# Altium footprint library SO_package.PcbLib: 34 footprints (part 2 of 3)
Each footprint in its own frame and in the unit in brackets; x right, y up, seen from the top. Pads: shape width x height; smd on the part's side, far side on the other; paste and mask are expansions set on the pad; w line width, h text height; cw(c..) or ccw(c..) is an arc to the next point about the centre after c.
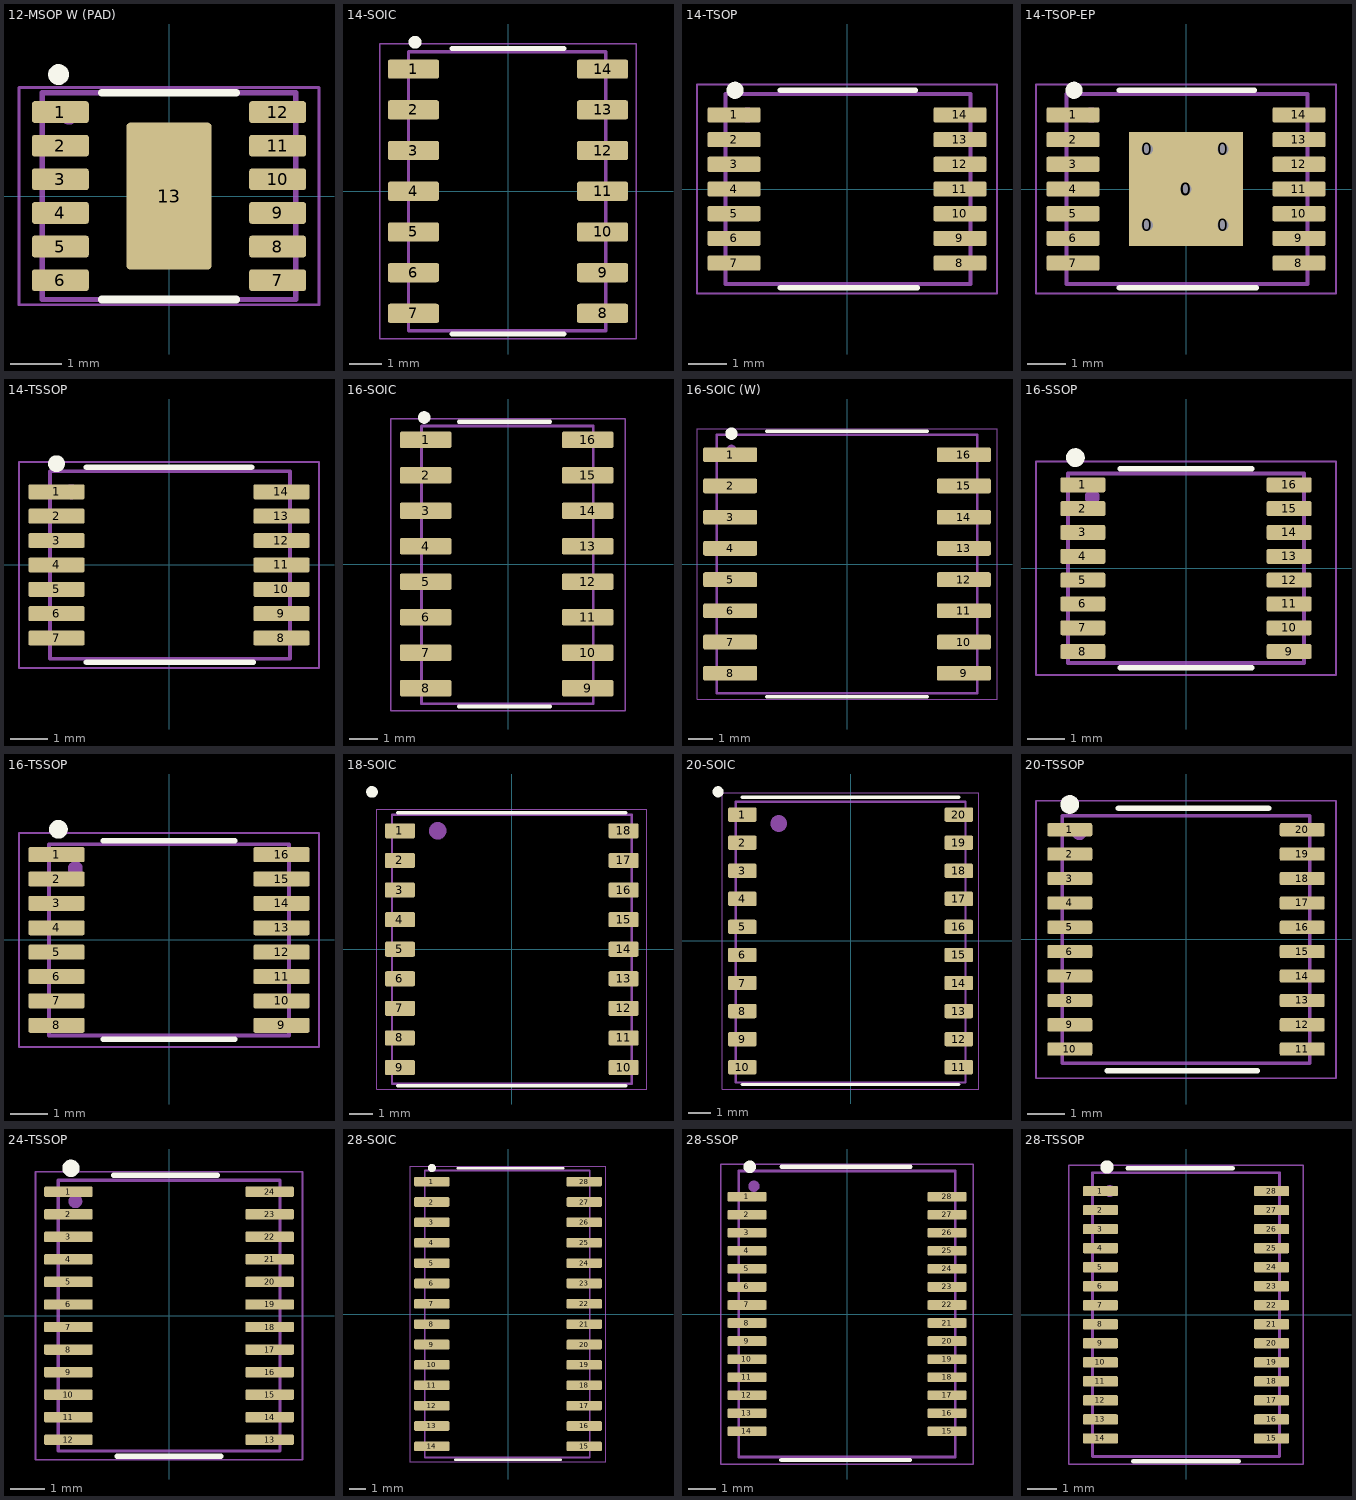
[diagram p1: the footprints below, top view; thin cyan lines are the x and y axes]

## 12-MSOP W (PAD) [mm]
height 1.1
pads (13):
  rrect25% 1.1x0.42 smd: 1(-2.1,1.625) 2(-2.1,0.975) 3(-2.1,0.325) 4(-2.1,-0.325) 5(-2.1,-0.975) 6(-2.1,-1.625) 7(2.1,-1.625) 8(2.1,-0.975) 9(2.1,-0.325) 10(2.1,0.325) 11(2.1,0.975) 12(2.1,1.625)
  rrect10% 1.651x2.845 smd: 13(0,0)
Top Overlay:
  circle w0.2: c-2.135,2.351 r0.1
  lines w0.15: -1.3,-2 1.3,-2 ; -1.3,2 1.3,2
Top Assembly (Mech13):
  circle w0.2: c-1.932,1.586 r0.1
  lines w0.1: -2.45,-2 -2.45,2 2.45,2 2.45,-2 -2.45,-2
  text ".Designator" at -4.998,-0.333 h1
Top Courtyard:
  lines w0.05: -2.9,-2.1 -2.9,2.1 2.9,2.1 2.9,-2.1 -2.9,-2.1

## 14-SOIC [mm]
pads (14):
  rrect25% 1.6x0.6 smd: 1(-2.95,3.81) 2(-2.95,2.54) 3(-2.95,1.27) 4(-2.95,0) 5(-2.95,-1.27) 6(-2.95,-2.54) 7(-2.95,-3.81) 8(2.95,-3.81) 9(2.95,-2.54) 10(2.95,-1.27) 11(2.95,0) 12(2.95,1.27) 13(2.95,2.54) 14(2.95,3.81)
Top Overlay:
  circle w0.2: c-2.9,4.65 r0.1
  lines w0.15: -1.75,-4.45 1.75,-4.45 ; -1.75,4.45 1.75,4.45
Top Assembly (Mech13):
  circle w0.2: c-2.5,3.75 r0.1
  lines w0.1: -3.1,-4.35 -3.1,4.35 3.05,4.35 3.05,-4.35 -3.1,-4.35
  text ".Designator" at -4.998,-0.333 h1
Top Courtyard:
  lines w0.05: 4,3.9 4,-4.6 -4,-4.6 -4,4.6 4,4.6 4,3.91
3D body "User Library-so14-2.STEP": height 1.78, standoff 0.01, extent -3.068,-4.34 3.069,4.36

## 14-TSOP [mm]
height 1.2
pads (14):
  rrect25% 1.4x0.4 smd: 1(-2.975,1.95) 2(-2.975,1.3) 3(-2.975,0.65) 4(-2.975,0) 5(-2.975,-0.65) 6(-2.975,-1.3) 7(-2.975,-1.95) 8(2.975,-1.95) 9(2.975,-1.3) 10(2.975,-0.65) 11(2.975,0) 12(2.975,0.65) 13(2.975,1.3) 14(2.975,1.95)
Top Overlay:
  circle w0.25: c-2.95,2.6 r0.1
  lines w0.15: -1.75,-2.6 1.85,-2.6 ; -1.75,2.6 1.8,2.6
Top Assembly (Mech13):
  lines w0.1: -3.2,-2.5 -3.2,2.5 3.25,2.5 3.25,-2.5 -3.2,-2.5 ; 3.225,2.5 3.225,2.5
  lines w0.2: -2.521,1.95 ccw(c-2.621,1.95) -2.521,1.95
  text ".Designator" at -4.998,-0.333 h1
Top Courtyard:
  lines w0.05: -3.95,-2.75 -3.95,2.75 3.95,2.75 3.95,-2.75 -0.575,-2.75 -3.95,-2.75
3D body "SW3dPS-TSSOP14-1.STEP": height 1.1, standoff 0, extent -3.175,-2.5 3.225,2.5

## 14-TSOP-EP [mm]
height 1.2
pads (20):
  round 0.6 hole 0.3: 0(-1.025,-0.95) 0(-1.025,1.05) 0(0,0) 0(0.975,-0.95) 0(0.975,1.05)
  rect 3x3 smd: 0(0,0)
  rrect25% 1.4x0.4 smd: 1(-2.975,1.95) 2(-2.975,1.3) 3(-2.975,0.65) 4(-2.975,0) 5(-2.975,-0.65) 6(-2.975,-1.3) 7(-2.975,-1.95) 8(2.975,-1.95) 9(2.975,-1.3) 10(2.975,-0.65) 11(2.975,0) 12(2.975,0.65) 13(2.975,1.3) 14(2.975,1.95)
Top Overlay:
  circle w0.25: c-2.95,2.6 r0.1
  lines w0.15: -1.75,-2.6 1.85,-2.6 ; -1.75,2.6 1.8,2.6
Top Assembly (Mech13):
  circle w0.2: c-2.5,1.95 r0.1
  lines w0.1: -3.15,-2.5 3.2,-2.5 3.2,2.5 -3.15,2.5 -3.15,-2.5
  text ".Designator" at -4.998,-0.333 h1
Top Courtyard:
  lines w0.05: -3.95,-2.75 -0.575,-2.75 3.95,-2.75 3.95,2.75 -3.95,2.75 -3.95,-2.75
  lines w0.1: -0.5,0 0.5,0 ; 0,-0.5 0,0.5
3D body "SW3dPS-TSSOP14-1.STEP": height 1.1, standoff 0, extent -3.175,-2.5 3.225,2.5

## 14-TSSOP [mm]
height 1.2
pads (14):
  rrect25% 1.5x0.4 smd: 1(-3,1.95) 2(-3,1.3) 3(-3,0.65) 4(-3,0) 5(-3,-0.65) 6(-3,-1.3) 7(-3,-1.95) 8(3,-1.95) 9(3,-1.3) 10(3,-0.65) 11(3,0) 12(3,0.65) 13(3,1.3) 14(3,1.95)
Top Overlay:
  circle w0.25: c-3,2.7 r0.1
  lines w0.15: -2.2,-2.6 2.25,-2.6 ; -2.2,2.6 2.2,2.6
Top Assembly (Mech13):
  circle w0.2: c-2.6,1.95 r0.1
  lines w0.1: 3.225,2.5 -3.175,2.5 -3.175,-2.5 3.225,-2.5 3.225,2.5 ; 3.225,2.5 3.225,2.5
  text ".Designator" at -4.998,-0.333 h1
Top Courtyard:
  lines w0.05: -4,-2.75 -4,2.75 4,2.75 4,-2.75 -4,-2.75
3D body "SW3dPS-TSSOP14-1.STEP": height 1.1, standoff 0, extent -3.175,-2.5 3.225,2.5

## 16-SOIC [mm]
height 2.65
pads (16):
  rrect25% 1.85x0.6 smd: 1(-2.95,4.45) 2(-2.95,3.18) 3(-2.95,1.91) 4(-2.95,0.64) 5(-2.95,-0.63) 6(-2.95,-1.9) 7(-2.95,-3.17) 8(-2.95,-4.44) 9(2.85,-4.44) 10(2.85,-3.17) 11(2.85,-1.9) 12(2.85,-0.63) 13(2.85,0.64) 14(2.85,1.91) 15(2.85,3.18) 16(2.85,4.45)
Top Overlay:
  circle w0.25: c-3,5.25 r0.1
  lines w0.15: -1.75,-5.1 1.5,-5.1 ; -1.75,5.1 1.5,5.1
Top Assembly (Mech13):
  circle w0.2: c-2.6,4.4 r0.1
  lines w0.1: -3.1,-5 -3.1,4.95 3.05,4.95 3.05,-5 -3.1,-5
  text ".Designator" at -4.998,-0.333 h1
Top Courtyard:
  lines w0.05: -4.2,-5.25 4.2,-5.25 4.2,5.2 -4.2,5.2 -4.2,-5.25
3D body "User Library-so16-1.STEP": height 1.73, standoff -0.04, extent -3.075,-5.018 3.062,4.952

## 16-SOIC (W) [mm]
height 2.65
pads (16):
  rrect25% 2.2x0.6 smd: 1(-4.75,4.445) 2(-4.75,3.175) 3(-4.75,1.905) 4(-4.75,0.635) 5(-4.75,-0.635) 6(-4.75,-1.905) 7(-4.75,-3.175) 8(-4.75,-4.445) 9(4.75,-4.445) 10(4.75,-3.175) 11(4.75,-1.905) 12(4.75,-0.635) 13(4.75,0.635) 14(4.75,1.905) 15(4.75,3.175) 16(4.75,4.445)
Top Overlay:
  circle w0.3: c-4.7,5.3 r0.1
  lines w0.15: -3.25,-5.4 3.25,-5.4 ; -3.25,5.4 3.25,5.4
Top Assembly (Mech13):
  circle w0.2: c-4.7,4.65 r0.1
  lines w0.1: -5.3,-5.25 5.3,-5.25 5.3,5.25 -5.3,5.25 -5.3,-5.25
  text ".Designator" at -4.998,-0.333 h1
Top Courtyard:
  lines w0.05: -6.1,-5.5 -6.1,5.5 6.1,5.5 6.1,-5.5 -6.1,-5.5
3D body "User Library-SOIC16_Wide_JEDEC_MS-013AA.STEP": height 2.62, standoff -0.03, extent -5.315,-5.25 5.315,5.25

## 16-SSOP [mm] "TSOP, 16-Leads, Body 5,00x4,00mm, Pitch 0,635mm, IPC Medium Density"
height 1.2
pads (16):
  rrect25% 1.2x0.4 smd: 1(-2.75,2.223) 2(-2.75,1.588) 3(-2.75,0.953) 4(-2.75,0.318) 5(-2.75,-0.318) 6(-2.75,-0.953) 7(-2.75,-1.588) 8(-2.75,-2.223) 9(2.75,-2.223) 10(2.75,-1.588) 11(2.75,-0.953) 12(2.75,-0.318) 13(2.75,0.318) 14(2.75,0.953) 15(2.75,1.588) 16(2.75,2.223)
Top Overlay:
  circle w0.25: c-2.95,2.95 r0.125
  lines w0.15: -1.75,-2.65 1.75,-2.65 ; -1.75,2.65 1.75,2.65
Top Assembly (Mech13):
  circle w0.2: c-2.5,1.9 r0.1
  lines w0.1: -3.15,-2.525 -3.15,2.525 3.15,2.525 3.15,-2.525 -3.15,-2.525
  text ".Designator" at -4.998,-0.333 h1
Top Courtyard:
  lines w0.05: -4,-2.85 -4,2.85 4,2.85 4,-2.85 -4,-2.85
3D body "User Library-SSOP 16-pin.STEP": height 1.75, standoff 0.01, extent -3.127,-2.5 3.127,2.5

## 16-TSSOP [mm] "TSOP, 16-Leads, Body 5,00x4,40mm, Pitch 0,65mm, IPC Medium Density"
height 1.2
pads (16):
  rrect25% 1.5x0.4 smd: 1(-3,2.275) 2(-3,1.625) 3(-3,0.975) 4(-3,0.325) 5(-3,-0.325) 6(-3,-0.975) 7(-3,-1.625) 8(-3,-2.275) 9(3,-2.275) 10(3,-1.625) 11(3,-0.975) 12(3,-0.325) 13(3,0.325) 14(3,0.975) 15(3,1.625) 16(3,2.275)
Top Overlay:
  circle w0.25: c-2.95,2.95 r0.125
  lines w0.15: -1.75,-2.65 1.75,-2.65 ; -1.75,2.65 1.75,2.65
Top Assembly (Mech13):
  circle w0.2: c-2.5,1.9 r0.1
  lines w0.1: -3.2,-2.55 -3.2,2.55 3.2,2.55 3.2,-2.55 -3.2,-2.55
  text ".Designator" at -4.998,-0.333 h1
Top Courtyard:
  lines w0.05: -4,-2.85 -4,2.85 4,2.85 4,-2.85 -4,-2.85
3D body "User Library-TSSOP-16-1.step": height 1.1, standoff 0, extent -3.2,-2.5 3.2,2.5

## 18-SOIC [mm]
height 1.2
pads (18):
  rrect25% 1.3x0.65 smd: 1(-4.8,5.08) 2(-4.8,3.81) 3(-4.8,2.54) 4(-4.8,1.27) 5(-4.8,0) 6(-4.8,-1.27) 7(-4.8,-2.54) 8(-4.8,-3.81) 9(-4.8,-5.08) 10(4.8,-5.08) 11(4.8,-3.81) 12(4.8,-2.54) 13(4.8,-1.27) 14(4.8,0) 15(4.8,1.27) 16(4.8,2.54) 17(4.8,3.81) 18(4.8,5.08)
Top Overlay:
  circle w0.25: c-5.998,6.752 r0.125
  lines w0.15: -4.9,-5.865 4.9,-5.865 ; -4.9,5.865 4.9,5.865
Top Assembly (Mech13):
  circle w0.75: c-3.182,5.08 r0.001
  lines w0.1: -5.141,-5.776 5.148,-5.776 5.148,5.772 -5.141,5.772 -5.141,-5.776
  text ".Designator" at -4.998,-0.333 h1
Top Courtyard:
  lines w0.05: -5.8,-6 5.8,-6 5.8,6 -5.8,6 -5.8,-6
3D body "User Library-SOIC18-300.STEP": height 2.65, standoff 0, extent -5.15,-5.765 5.15,5.765

## 20-SOIC [mm]
height 1.2
pads (20):
  rrect25% 1.3x0.65 smd: 1(-4.9,5.715) 2(-4.9,4.445) 3(-4.9,3.175) 4(-4.9,1.905) 5(-4.9,0.635) 6(-4.9,-0.635) 7(-4.9,-1.905) 8(-4.9,-3.175) 9(-4.9,-4.445) 10(-4.9,-5.715) 11(4.9,-5.715) 12(4.9,-4.445) 13(4.9,-3.175) 14(4.9,-1.905) 15(4.9,-0.635) 16(4.9,0.635) 17(4.9,1.905) 18(4.9,3.175) 19(4.9,4.445) 20(4.9,5.715)
Top Overlay:
  circle w0.25: c-5.998,6.752 r0.125
  lines w0.15: -4.9,-6.5 4.9,-6.5 ; -4.9,6.5 4.9,6.5
Top Assembly (Mech13):
  circle w0.75: c-3.253,5.314 r0.001
  lines w0.1: -5.2,-6.4 5.2,-6.4 5.2,6.3 -5.2,6.3 -5.2,-6.4
  text ".Designator" at -4.998,-0.333 h1
Top Courtyard:
  lines w0.05: -5.8,-6.7 5.8,-6.7 5.8,6.7 -5.8,6.7 -5.8,-6.7
3D body "User Library-SOIC_20-300.STEP": height 2.6, standoff 0, extent -5.2,-6.315 5.2,6.285

## 20-TSSOP [mm]
height 1.2
pads (20):
  rrect25% 1.2x0.35 smd: 1(-3.1,2.925) 2(-3.1,2.275) 3(-3.1,1.625) 4(-3.1,0.975) 5(-3.1,0.325) 6(-3.1,-0.325) 7(-3.1,-0.975) 8(-3.1,-1.625) 9(-3.1,-2.275) 10(-3.1,-2.925) 11(3.1,-2.925) 12(3.1,-2.275) 13(3.1,-1.625) 14(3.1,-0.975) 15(3.1,-0.325) 16(3.1,0.325) 17(3.1,0.975) 18(3.1,1.625) 19(3.1,2.275) 20(3.1,2.925)
Top Overlay:
  circle w0.25: c-3.1,3.6 r0.125
  lines w0.15: -2.1,-3.5 1.9,-3.5 ; -1.8,3.5 2.2,3.5
Top Assembly (Mech13):
  circle w0.2: c-2.846,2.85 r0.1
  lines w0.1: -3.3,-3.3 3.3,-3.3 3.3,3.3 -3.3,3.3 -3.3,-3.3
  text ".Designator" at -4.998,-0.333 h1
Top Courtyard:
  lines w0.05: -4,-3.7 4,-3.7 4,3.7 -4,3.7 -4,-3.7
3D body "tssop-20-1.STEP": height 1.1, standoff -0.1, extent -3.3,-3.3 3.3,3.3

## 24-TSSOP [mm]
height 1.2
pads (24):
  rrect25% 1.4x0.3 smd: 1(-2.9,3.575) 2(-2.9,2.925) 3(-2.9,2.275) 4(-2.9,1.625) 5(-2.9,0.975) 6(-2.9,0.325) 7(-2.9,-0.325) 8(-2.9,-0.975) 9(-2.9,-1.625) 10(-2.9,-2.275) 11(-2.9,-2.925) 12(-2.9,-3.575) 13(2.9,-3.575) 14(2.9,-2.925) 15(2.9,-2.275) 16(2.9,-1.625) 17(2.9,-0.975) 18(2.9,-0.325) 19(2.9,0.325) 20(2.9,0.975) 21(2.9,1.625) 22(2.9,2.275) 23(2.9,2.925) 24(2.9,3.575)
Top Overlay:
  circle w0.25: c-2.825,4.25 r0.125
  lines w0.15: -1.6,4.05 1.4,4.05 ; -1.5,-4.05 1.5,-4.05
Top Assembly (Mech13):
  lines w0.1: -3.2,-3.9 -3.2,3.9 3.2,3.9 3.2,-3.9 -3.2,-3.9
  lines w0.2: -2.605,3.332 ccw(c-2.7,3.3) -2.6,3.3
  text ".Designator" at -4.998,-0.333 h1
Top Courtyard:
  lines w0.05: -3.85,-4.15 -3.85,4.15 3.85,4.15 3.85,-4.15 -3.85,-4.15
3D body "TSSOP24.STEP": height 1.2, standoff 0, extent -3.2,-3.9 3.2,3.9

## 28-SOIC [mm] "SOIC, 28-Leads, Body 17,86x7,46mm, Pitch 1,27mm, IPC Medium Density"
height 2.65
pads (28):
  rrect25% 2.2x0.6 smd: 1(-4.75,8.255) 2(-4.75,6.985) 3(-4.75,5.715) 4(-4.75,4.445) 5(-4.75,3.175) 6(-4.75,1.905) 7(-4.75,0.635) 8(-4.75,-0.635) 9(-4.75,-1.905) 10(-4.75,-3.175) 11(-4.75,-4.445) 12(-4.75,-5.715) 13(-4.75,-6.985) 14(-4.75,-8.255) 15(4.75,-8.255) 16(4.75,-6.985) 17(4.75,-5.715) 18(4.75,-4.445) 19(4.75,-3.175) 20(4.75,-1.905) 21(4.75,-0.635) 22(4.75,0.635) 23(4.75,1.905) 24(4.75,3.175) 25(4.75,4.445) 26(4.75,5.715) 27(4.75,6.985) 28(4.75,8.255)
Top Overlay:
  circle w0.25: c-4.75,9.105 r0.125
  lines w0.15: -3.3,-9.1 3.3,-9.1 ; -3.15,9.1 3.45,9.1
Top Assembly (Mech13):
  lines w0.1: -5.2,-8.95 5.1,-8.95 5.1,8.95 -5.2,8.95 -5.2,-8.95
  lines w0.2: -4.527,8.277 ccw(c-4.625,8.255) -4.526,8.267
  text ".Designator" at -4.998,-0.333 h1
Top Courtyard:
  lines w0.05: -6.1,-9.25 -6.1,9.2 6.1,9.2 6.1,-9.25 ; -6.1,-9.2 6.1,-9.2
3D body "User Library-28-SOIC.STEP": height 2.73, standoff -0.03, extent -5.2,-8.95 5.1,8.95

## 28-SSOP [mm]
pads (28):
  rrect25% 1.4x0.35 smd: 1(-3.6,4.225) 2(-3.6,3.575) 3(-3.6,2.925) 4(-3.6,2.275) 5(-3.6,1.625) 6(-3.6,0.975) 7(-3.6,0.325) 8(-3.6,-0.325) 9(-3.6,-0.975) 10(-3.6,-1.625) 11(-3.6,-2.275) 12(-3.6,-2.925) 13(-3.6,-3.575) 14(-3.6,-4.225) 15(3.6,-4.225) 16(3.6,-3.575) 17(3.6,-2.925) 18(3.6,-2.275) 19(3.6,-1.625) 20(3.6,-0.975) 21(3.6,-0.325) 22(3.6,0.325) 23(3.6,0.975) 24(3.6,1.625) 25(3.6,2.275) 26(3.6,2.925) 27(3.6,3.575) 28(3.6,4.225)
Top Overlay:
  circle w0.254: c-3.5,5.3 r0.1
  lines w0.15: -2.365,-5.25 2.265,-5.25 ; -2.35,5.3 2.28,5.3
Top Assembly (Mech13):
  lines w0.1: -3.9,-5.15 3.9,-5.15 3.9,5.15 -3.9,5.15 -3.9,-5.15
  lines w0.2: -3.255,4.568 cw(c-3.35,4.6) -3.25,4.6
  text ".Designator" at -4.998,-0.333 h1
Top Courtyard:
  lines w0.05: -4.55,-5.4 -4.55,5.4 4.55,5.4 4.55,-5.4 -4.55,-5.4
3D body "User Library-SSOP-28-1.STEP": height 2.15, standoff 0, extent -3.878,-5.165 3.878,5.165

## 28-TSSOP [mm] "SOP, 28-Leads, Body 9,70x4,40mm, Pitch 0,65mm, IPC Medium Density"
height 2.65
pads (28):
  rrect25% 1.2x0.35 smd: 1(-2.925,4.225) 2(-2.925,3.575) 3(-2.925,2.925) 4(-2.925,2.275) 5(-2.925,1.625) 6(-2.925,0.975) 7(-2.925,0.325) 8(-2.925,-0.325) 9(-2.925,-0.975) 10(-2.925,-1.625) 11(-2.925,-2.275) 12(-2.925,-2.925) 13(-2.925,-3.575) 14(-2.925,-4.225) 15(2.925,-4.225) 16(2.925,-3.575) 17(2.925,-2.925) 18(2.925,-2.275) 19(2.925,-1.625) 20(2.925,-0.975) 21(2.925,-0.325) 22(2.925,0.325) 23(2.925,0.975) 24(2.925,1.625) 25(2.925,2.275) 26(2.925,2.925) 27(2.925,3.575) 28(2.925,4.225)
Top Overlay:
  lines w0.15: -2,5 1.6,5 ; -1.8,-5 1.8,-5
  lines w0.254: -2.603,5.026 cw(c-2.7,5.05) -2.6,5.05
Top Assembly (Mech13):
  lines w0.1: -3.2,-4.85 3.2,-4.85 3.2,4.85 -3.2,4.85 -3.2,-4.85
  lines w0.2: -2.503,4.225 cw(c-2.603,4.225) -2.503,4.233
  text ".Designator" at -4.998,-0.333 h1
Top Courtyard:
  lines w0.05: -4,-5.1 4,-5.1 4,5.1 -4,5.1 -4,-5.1
3D body "User Library-TSSOP-28.STEP": height 1.2, standoff 0, extent -3.2,-4.85 3.2,4.85